# Altium schematic symbol library Crystals.SchLib: 1 symbol
Pins are listed as number, name and electrical type; pins without a type are passive.

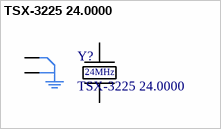
[diagram p0: symbol TSX-3225 24.0000]

## TSX-3225 24.0000
designator Y?
24MHz ±10ppm Crystal 9pF 40 Ohms 4-SMD, No Lead; Supplier 1: Digi-Key; Supplier 2: Mouser; Supplier Part Number 2: 732-22524MF15X-AC6; Supplier Part Number 1: SER4180CT-ND
footprint TSX-3225
pins: 1, 2, 3, 4
text: 24MHz